# Altium schematic symbol library microphon.SCHLIB: 9 symbols
Pins are listed as number, name and electrical type; pins without a type are passive.

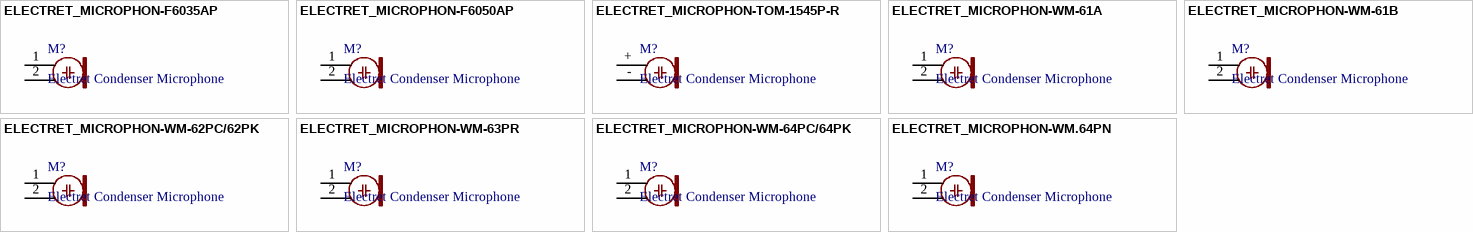
[diagram p0: symbols ELECTRET_MICROPHON-F6035AP to ELECTRET_MICROPHON-WM.64PN]

## ELECTRET_MICROPHON-F6035AP
designator M?, comment Electret Condenser Microphone
footprint F6035AP
pins: 1, 2

## ELECTRET_MICROPHON-F6050AP
designator M?, comment Electret Condenser Microphone
footprint F6050AP
pins: 1, 2

## ELECTRET_MICROPHON-TOM-1545P-R
designator M?, comment Electret Condenser Microphone
footprint TOM-1545P-R
pins: + 1, - 2

## ELECTRET_MICROPHON-WM-61A
designator M?, comment Electret Condenser Microphone
footprint WM-61A
pins: 1, 2

## ELECTRET_MICROPHON-WM-61B
designator M?, comment Electret Condenser Microphone
footprint WM-61B
pins: 1, 2

## ELECTRET_MICROPHON-WM-62PC/62PK
designator M?, comment Electret Condenser Microphone
footprint WM-62PC/62PK
pins: 1, 2

## ELECTRET_MICROPHON-WM-63PR
designator M?, comment Electret Condenser Microphone
footprint WM-63PR
pins: 1, 2

## ELECTRET_MICROPHON-WM-64PC/64PK
designator M?, comment Electret Condenser Microphone
footprint WM-64PC/64PK
pins: 1, 2

## ELECTRET_MICROPHON-WM.64PN
designator M?, comment Electret Condenser Microphone
footprint WM-64PN
pins: 1, 2